# Altium integrated library 1140084168.IntLib: 1 symbol
Pins are listed as number, name and electrical type; pins without a type are passive.

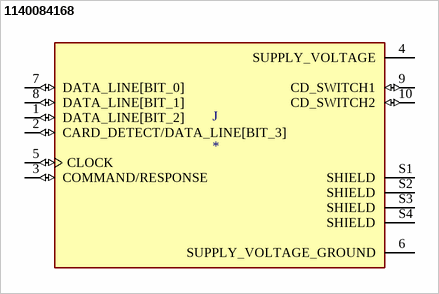
[diagram p0: symbol 1140084168]

## 1140084168
designator J
10 _8 + 2_ Position Card Connector Secure Digital - microSDâ„¢ Surface Mount, Right Angle Gold; MP: 1140084168; MF: Amphenol Commercial Products; SnapEDA_Link: https://www.snapeda.com/parts/1140084168/Amphenol/view-part/4544529/?ref=snap; Availability: Unavailable; Price: None; Value: *; Package: None
footprint AMPHENOL_1140084168
pins: 1 DATA_LINE[BIT_2] (io), 2 CARD_DETECT/DATA_LINE[BIT_3] (io), 3 COMMAND/RESPONSE (io), 4 SUPPLY_VOLTAGE (power), 5 CLOCK (io), 6 SUPPLY_VOLTAGE_GROUND (power), 7 DATA_LINE[BIT_0] (io), 8 DATA_LINE[BIT_1] (io), 9 CD_SWITCH1 (io), 10 CD_SWITCH2 (io), S1 SHIELD, S2 SHIELD, S3 SHIELD, S4 SHIELD